# Altium integrated library biblioteka_PSEL.IntLib: 6 symbols
Pins are listed as number, name and electrical type; pins without a type are passive.

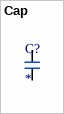
[diagram p0: symbol Cap]

## Cap
designator C?
Tolerance: *; Package: 0805; Value: *; Part number: *; Pin count: 2; Manufacterer: *; Footprint type: SMD
footprint C0805
pins: 1, 2


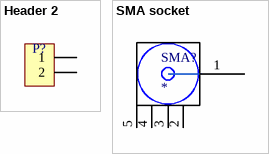
[diagram p1: symbols Header 2 to SMA socket]

## Header 2
designator P?  (value not drawn)
Header, 2-bin, vertical; Raster: 1.54mm; Pin count: 2; Manufaterer: *; Footprint type: THT; Part number: *; Package: *
footprint Header-2
pins: 1, 2

## SMA socket
designator SMA?
Manufacterer: Telegärtner; Part number: J01151A1201; Impedance: 50 ohm; Socket type: SMA; Pin count: 5; Footprint type: SMD
footprint SMA socket
pins: 1, 2, 3, 4, 5


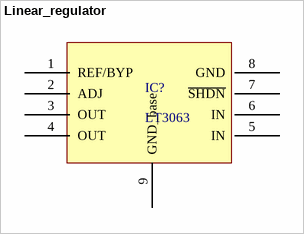
[diagram p2: symbol Linear_regulator]

## Linear_regulator
designator IC?, comment LT3063
Manufacterer: Linear Technology; Model name: LT3063; Pin count: 8; Package: SO-8; Footprint type: SMD
footprint 8-Lead Plastic MSOP
pins: 1 REF/BYP, 2 ADJ, 3 OUT, 4 OUT, 5 IN, 6 IN, 7 ~{SHDN}, 8 GND, 9 GND_base


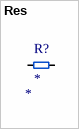
[diagram p3: symbol Res]

## Res
designator R?
Tolerance: *; Package: 0805; Part number: *; Manufacterer: *; Footprint type: SMD; Pin count: 2; Value: *
footprint R0805
pins: 1, 2


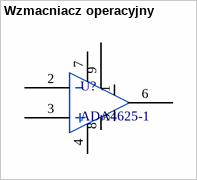
[diagram p4: symbol Wzmacniacz operacyjny]

## Wzmacniacz operacyjny
designator U?, comment ADA4625-1
Manufacterer: Analog Devices; Model name: ADA4625-1; Pin count: 8; Package: SO-8; Footprint type: SMD
footprint SOIC_N_EP
pins: 1, 2, 3, 4, 5, 6, 7, 8, 9